# EAGLE library part MCP42XX (library HydraSpex)
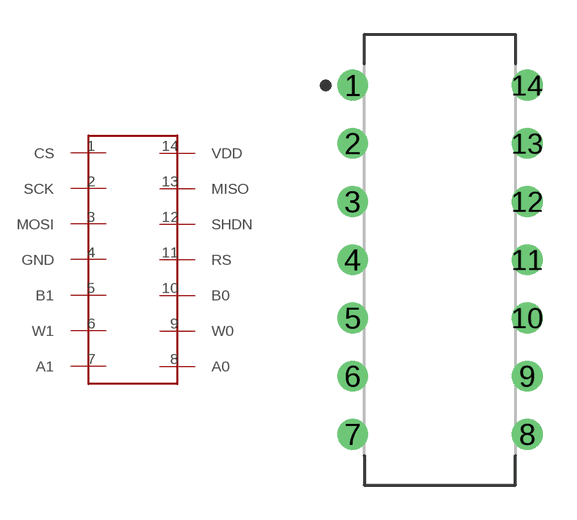
[diagram p3: symbol with the pads of DIP762W53P254L1969H508Q14B; footprint DIP762W53P254L1969H508Q14B]

Designator prefix -

## MCP42XXDIP-14  [DIP762W53P254L1969H508Q14B]
1  CS
2  SCK
3  MOSI
4  GND
5  B1
6  W1
7  A1
8  A0
9  W0
10  B0
11  RS
12  SHDN
13  MISO
14  VDD

## Footprint DIP762W53P254L1969H508Q14B (pad centres in mm)
14-DIP, 2.54 mm (0.10 in) pitch, 7.62 mm (0.30 in) span, 19.69 X 6.35 X 5.08 mm body 14-pin DIP package with 2.54 mm (0.10 in) pitch, 7.62 mm (0.30 in) span with body size 19.69 X 6.35 X 5.08 mm
drill 0.743 pad 1.343: 1 -3.81,7.62; 2 -3.81,5.08; 3 -3.81,2.54; 4 -3.81,0; 5 -3.81,-2.54; 6 -3.81,-5.08; 7 -3.81,-7.62; 8 3.81,-7.62; 9 3.81,-5.08; 10 3.81,-2.54; 11 3.81,0; 12 3.81,2.54; 13 3.81,5.08; 14 3.81,7.62